# EAGLE library part MAX1000 (library MAX1000)
https://wiki.trenz-electronic.de/display/PD/MAX1000 https://shop.trenz-electronic.de/en/Download/?path=Trenz_Electronic/TEI0001/REV02/Documents https://shop.trenz-electronic.de/de/TEI0001-02-08-C8-MAX1000-IoT-Maker-Board-8KLE?c=455
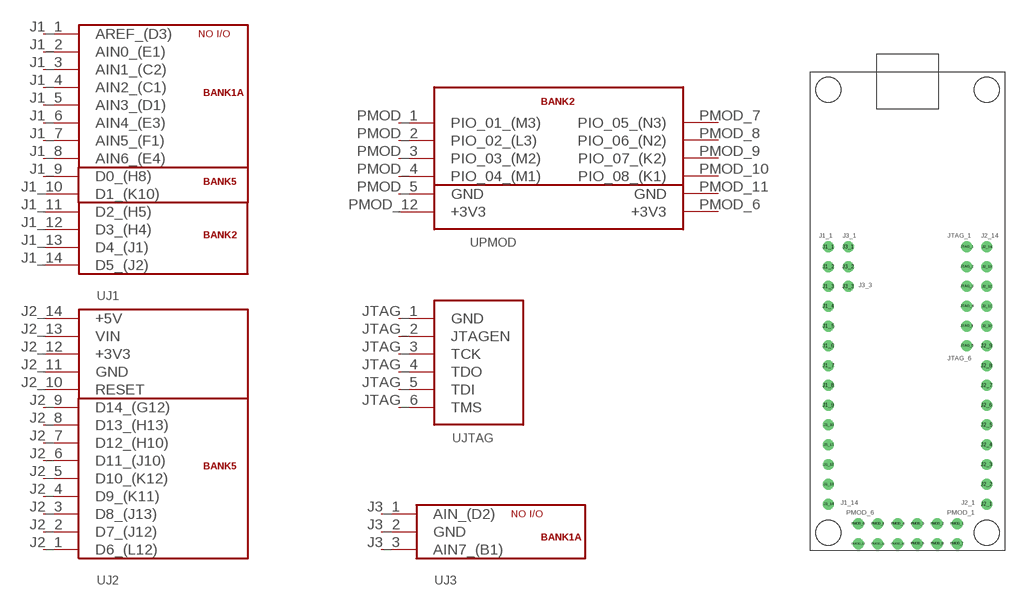
[diagram p0: symbol with the pads of MAX1000; footprint MAX1000]

Designator prefix -; gates J1=MAX1000_REV2_J1 J2=MAX1000_REV2_J2 PMOD=MAX1000_REV2_PMOD JTAG=MAX1000_REV2_JTAG J3=MAX1000_REV2_J3

## MAX1000  [MAX1000]
J1_1  J1:AREF_(D3)
J1_2  J1:AIN0_(E1)
J1_3  J1:AIN1_(C2)
J1_4  J1:AIN2_(C1)
J1_5  J1:AIN3_(D1)
J1_6  J1:AIN4_(E3)
J1_7  J1:AIN5_(F1)
J1_8  J1:AIN6_(E4)
J1_9  J1:D0_(H8)
J1_10  J1:D1_(K10)
J1_11  J1:D2_(H5)
J1_12  J1:D3_(H4)
J1_13  J1:D4_(J1)
J1_14  J1:D5_(J2)
J2_1  J2:D6_(L12)
J2_2  J2:D7_(J12)
J2_3  J2:D8_(J13)
J2_4  J2:D9_(K11)
J2_5  J2:D10_(K12)
J2_6  J2:D11_(J10)
J2_7  J2:D12_(H10)
J2_8  J2:D13_(H13)
J2_9  J2:D14_(G12)
J2_10  J2:RESET
J2_11  J2:GND
J2_12  J2:+3V3
J2_13  J2:VIN
J2_14  J2:+5V
J3_1  J3:AIN_(D2)
J3_2  J3:GND
J3_3  J3:AIN7_(B1)
JTAG_1  JTAG:GND
JTAG_2  JTAG:JTAGEN
JTAG_3  JTAG:TCK
JTAG_4  JTAG:TDO
JTAG_5  JTAG:TDI
JTAG_6  JTAG:TMS
PMOD_1  PMOD:PIO_01_(M3)
PMOD_2  PMOD:PIO_02_(L3)
PMOD_3  PMOD:PIO_03_(M2)
PMOD_4  PMOD:PIO_04_(M1)
PMOD_5  PMOD:GND
PMOD_6  PMOD:+3V3
PMOD_7  PMOD:PIO_05_(N3)
PMOD_8  PMOD:PIO_06_(N2)
PMOD_9  PMOD:PIO_07_(K2)
PMOD_10  PMOD:PIO_08_(K1)
PMOD_11  PMOD:GND
PMOD_12  PMOD:+3V3

## Footprint MAX1000 (pad centres in mm)
https://www.trenz-electronic.de/fileadmin/docs/Trenz_Electronic/TEI0001/REV02/Pictures/TEI0001-01%20top.jpg
drill 0.9: J1_1 -10.16,8.255; J1_2 -10.16,5.715; J1_3 -10.16,3.175; J1_4 -10.16,0.635; J1_5 -10.16,-1.905; J1_6 -10.16,-4.445; J1_7 -10.16,-6.985; J1_8 -10.16,-9.525; J1_9 -10.16,-12.065; J1_10 -10.16,-14.605; J1_11 -10.16,-17.145; J1_12 -10.16,-19.685; J1_13 -10.16,-22.225; J1_14 -10.16,-24.765; J2_1 10.16,-24.765; J2_2 10.16,-22.225; J2_3 10.16,-19.685; J2_4 10.16,-17.145; J2_5 10.16,-14.605; J2_6 10.16,-12.065; J2_7 10.16,-9.525; J2_8 10.16,-6.985; J2_9 10.16,-4.445; J2_10 10.16,-1.905; J2_11 10.16,0.635; J2_12 10.16,3.175; J2_13 10.16,5.715; J2_14 10.16,8.255; J3_1 -7.62,8.255; J3_2 -7.62,5.715; J3_3 -7.62,3.175; JTAG_1 7.62,8.255; JTAG_2 7.62,5.715; JTAG_3 7.62,3.175; JTAG_4 7.62,0.635; JTAG_5 7.62,-1.905; JTAG_6 7.62,-4.445; PMOD_1 6.35,-27.305; PMOD_2 3.81,-27.305; PMOD_3 1.27,-27.305; PMOD_4 -1.27,-27.305; PMOD_5 -3.81,-27.305; PMOD_6 -6.35,-27.305; PMOD_7 6.35,-29.845; PMOD_8 3.81,-29.845; PMOD_9 1.27,-29.845; PMOD_10 -1.27,-29.845; PMOD_11 -3.81,-29.845; PMOD_12 -6.35,-29.845
hole 3.2 at -10.16,28.425
hole 3.2 at 10.16,28.425
hole 3.2 at 10.16,-28.425
hole 3.2 at -10.16,-28.425